# Altium schematic symbol library 2.2uH 2.3A.SchLib: 1 symbol
Pins are listed as number, name and electrical type; pins without a type are passive.

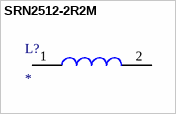
[diagram p0: symbol SRN2512-2R2M]

## SRN2512-2R2M
designator L?
Inductor; Manufacturer_Name: Bourns; Manufacturer_Part_Number: SRN2512-2R2M; Description: Bourns SRN2512 Series Shielded Wire-wound SMD Inductor with a Ferrite Core; Datasheet Link: http://www.bourns.com/docs/Product-Datasheets/SRN2512.pdf; Height: 1.2mm; Mouser Part Number: 652-SRN2512-2R2M; Mouser Price/Stock: https://www.mouser.com/Search/Refine.aspx?Keyword=652-SRN2512-2R2M; RS Part Number: 8135586P; RS Price/Stock: http://uk.rs-online.com/web/p/products/8135586P
footprint INDPM2622X120N
pins: 1, 2